# EAGLE library part JW2 (library Panasonic Relay)
JW - 2 Form C - Single side stable Data sheet <https://www.panasonic-electric-works.com/eu/download.htm?id=55825> Parameters Max. switching voltage: 30 V DC / 250 V AC Max. switching current: 5 A / 10 A Operational function: Single side stable Contact arrangement: 1 CO / 1 NO / 2 CO / 2 NO Applications Home appliances: TV sets, VCR, Microwave ovens Office machines: Photocopiers, Vending machines Industrial equipment: NC machines, Robots, Temperature controllers Options Available as sealed (SN) or flux-resistant (HN) types.
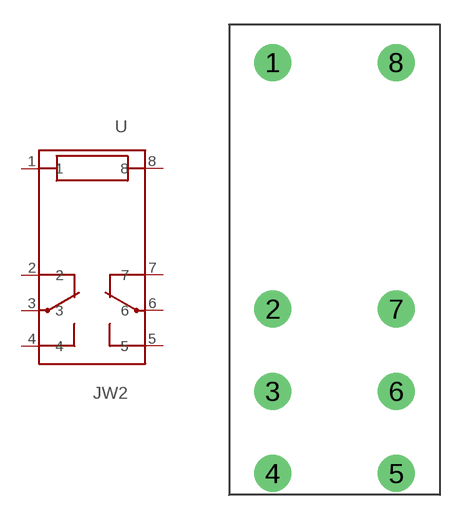
[diagram p56: symbol with the pads of JW_2_FORM_C; footprint JW_2_FORM_C]

Designator prefix -

## JW2HN-DC12V (U_COIL: 12V DC), JW2HN-DC24V (U_COIL: 24V DC), JW2HN-DC48V (U_COIL: 48V DC), JW2HN-DC5V (U_COIL: 5V DC), JW2HN-DC6V (U_COIL: 6V DC), JW2HN-DC9V (U_COIL: 9V DC), JW2SN-DC12V (U_COIL: 12V DC), JW2SN-DC24V (U_COIL: 24V DC), JW2SN-DC48V (U_COIL: 48V DC), JW2SN-DC5V (U_COIL: 5V DC), JW2SN-DC6V (U_COIL: 6V DC), JW2SN-DC9V (U_COIL: 9V DC)  [JW_2_FORM_C]
1  1
2  2
3  3
4  4
5  5
6  6
7  7
8  8

## Footprint JW_2_FORM_C (pad centres in mm)
drill 1.5: 1 -3.75,12; 2 -3.75,-3; 3 -3.75,-8; 4 -3.75,-13; 5 3.75,-13; 6 3.75,-8; 7 3.75,-3; 8 3.75,12